# Altium footprint library MOLEX_532610571.PcbLib: 1 footprints
Each footprint in its own frame and in the unit in brackets; x right, y up, seen from the top. Pads: shape width x height; smd on the part's side, far side on the other; paste and mask are expansions set on the pad; w line width, h text height; cw(c..) or ccw(c..) is an arc to the next point about the centre after c.
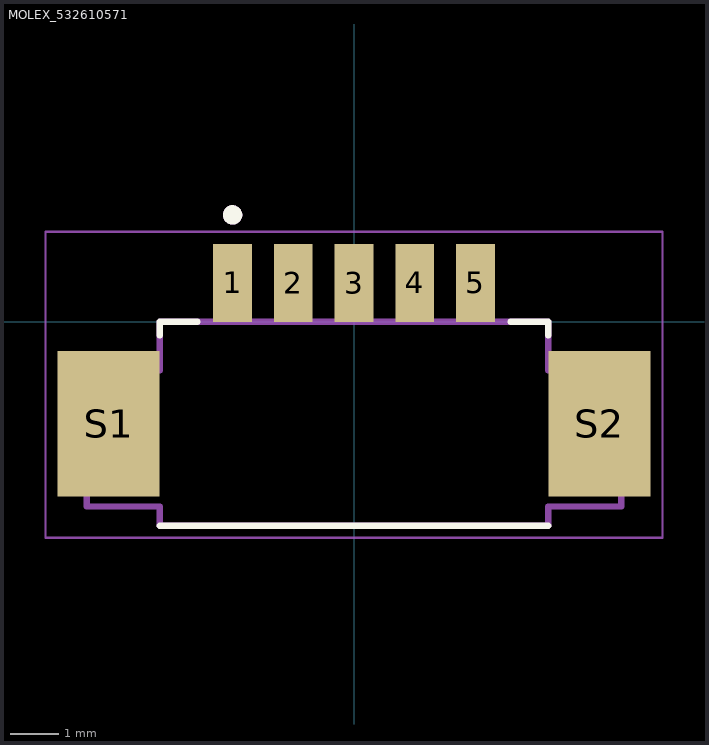
[diagram p0: the footprint, top view; thin cyan lines are the x and y axes]

## MOLEX_532610571 [mm]
pads (7):
  rect 0.8x1.6 smd: 1(-2.5,0.8) 2(-1.25,0.8) 3(0,0.8) 4(1.25,0.8) 5(2.5,0.8)
  rect 2.1x3 smd: S1(-5.05,-2.1) S2(5.05,-2.1)
Top Overlay:
  circle w0.2: c-2.5,2.2 r0.1
  lines w0.127: -4,-4.2 4,-4.2 ; -4,-0.28 -4,0 -3.22,0 ; 3.22,0 4,0 4,-0.28
Mechanical 13:
  circle w0.2: c-2.5,2.2 r0.1
  lines w0.127: -5.5,-3.8 -5.5,-1 -4,-1 -4,0 4,0 4,-1 5.5,-1 5.5,-3.8 4,-3.8 4,-4.2 -4,-4.2 -4,-3.8 -5.5,-3.8
Mechanical 15:
  lines w0.05: -6.35,-4.45 6.35,-4.45 6.35,1.85 -6.35,1.85 -6.35,-4.45
3D body "532610571.stp": height 3.4, standoff 0, extent -5.685,-4.251 5.715,0.949